# EAGLE library part AD7682 (library OpenEQ)
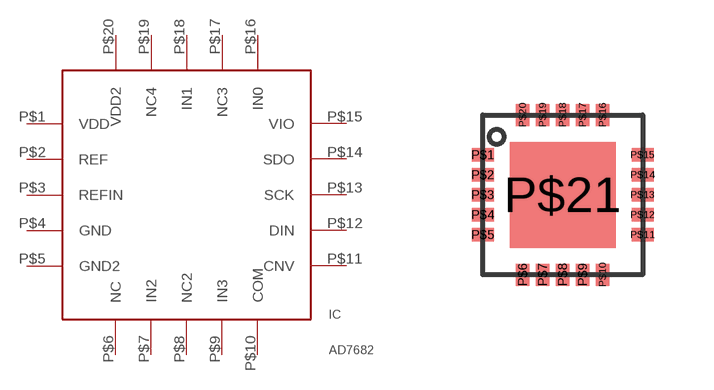
[diagram p1: symbol with the pads of LFCSP_VQ_CP-20-4; footprint LFCSP_VQ_CP-20-4]

Designator prefix IC

## AD7682  [LFCSP_VQ_CP-20-4]
P$1  VDD
P$2  REF
P$3  REFIN
P$4  GND
P$5  GND2
P$6  NC
P$7  IN2
P$8  NC2
P$9  IN3
P$10  COM
P$11  CNV
P$12  DIN
P$13  SCK
P$14  SDO
P$15  VIO
P$16  IN0
P$17  NC3
P$18  IN1
P$19  NC4
P$20  VDD2

## Footprint LFCSP_VQ_CP-20-4 (pad centres in mm)
smd 0.55 x 0.33: P$1 -2,1; P$2 -2,0.5; P$3 -2,0; P$4 -2,-0.5; P$5 -2,-1; P$11 2,-1; P$12 2,-0.5; P$13 2,0; P$14 2,0.5; P$15 2,1
smd 0.33 x 0.55: P$6 -1,-2; P$7 -0.5,-2; P$8 0,-2; P$9 0.5,-2; P$10 1,-2; P$16 1,2; P$17 0.5,2; P$18 0,2; P$19 -0.5,2; P$20 -1,2
smd 2.65 x 2.65: P$21 0,0